# Altium schematic symbol library Schlib1.SchLib: 13 symbols
Pins are listed as number, name and electrical type; pins without a type are passive.

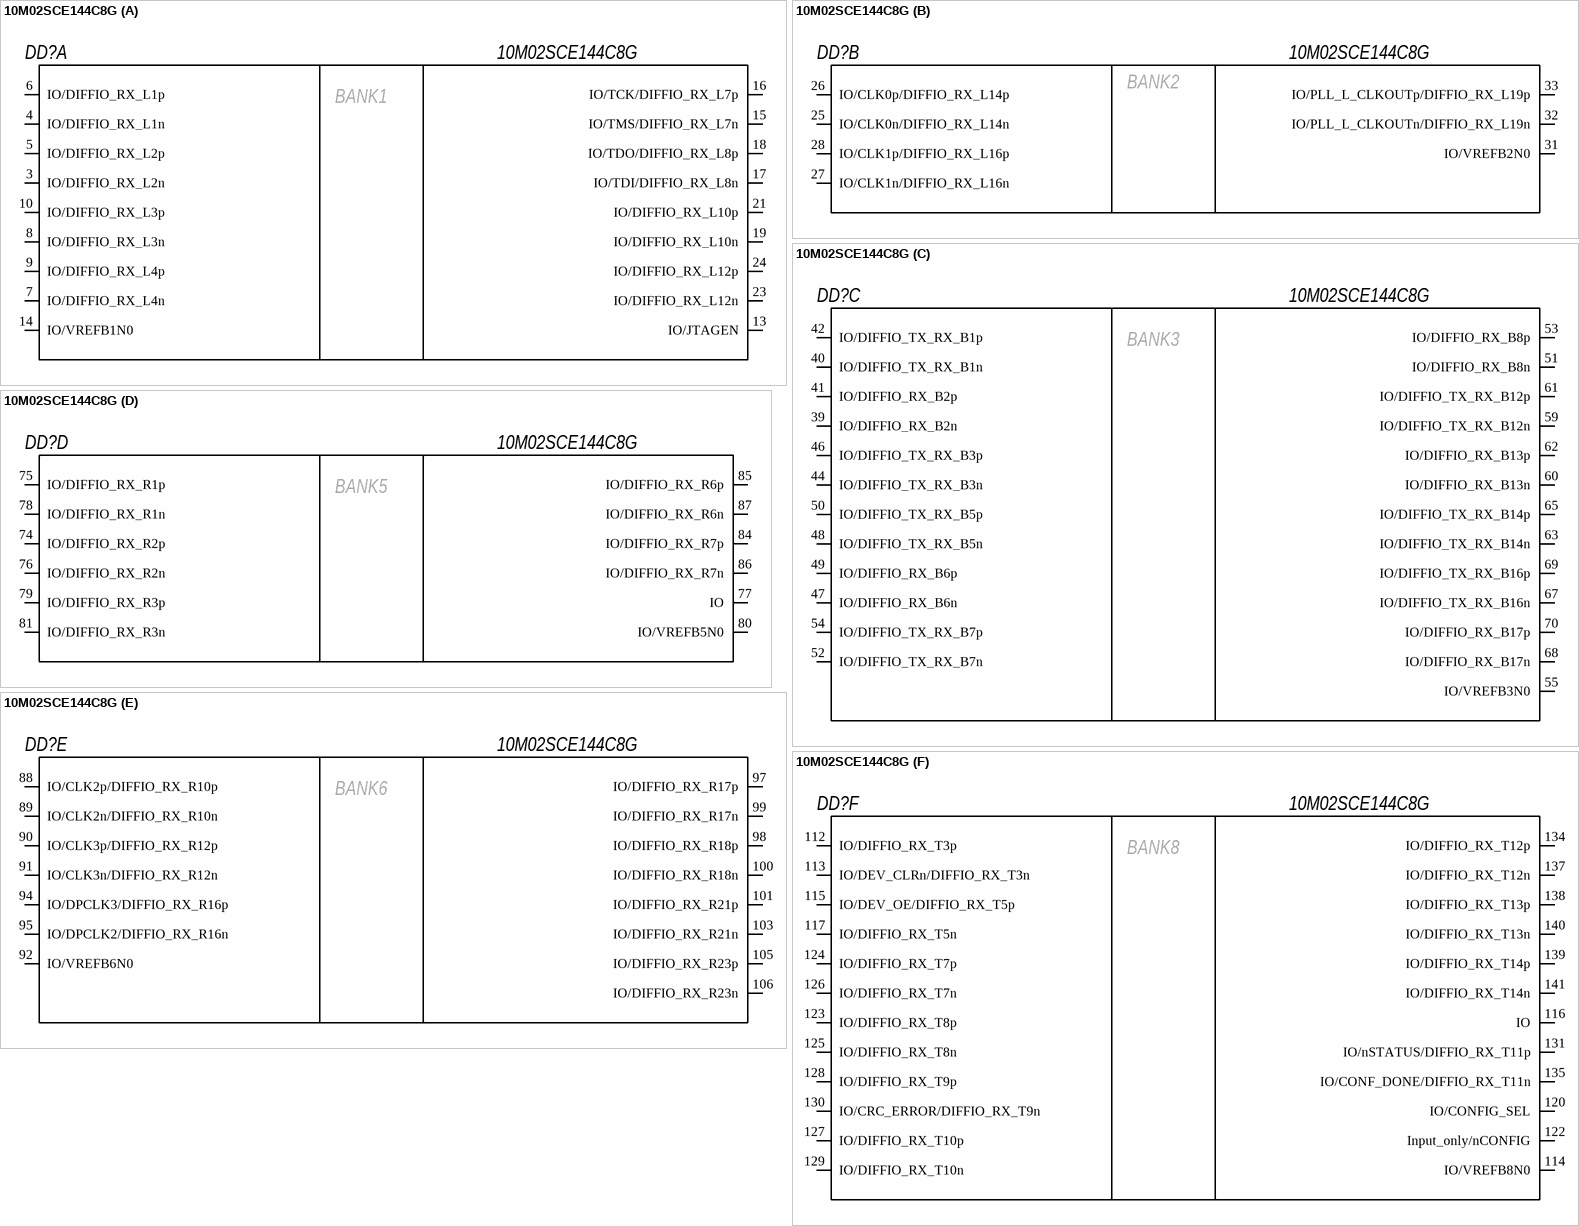
[diagram p0: symbol 10M02SCE144C8G]

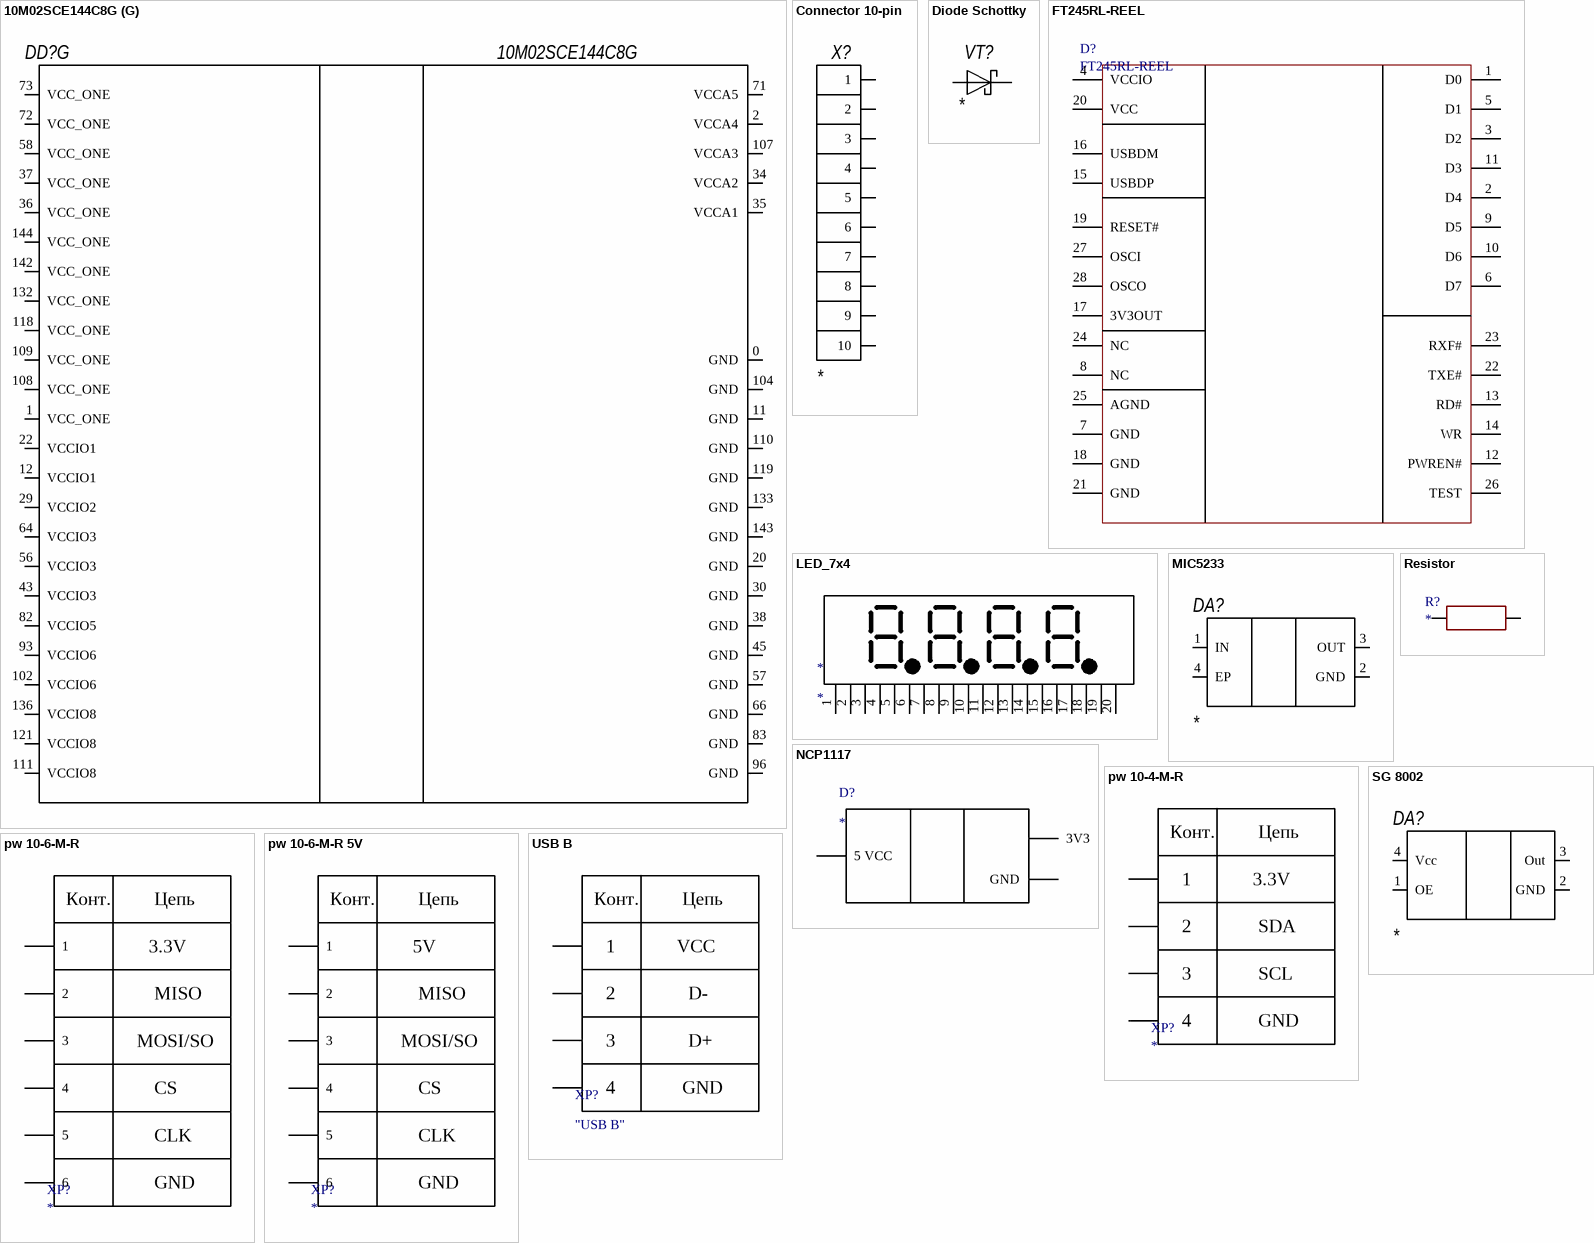
[diagram p1: symbols 10M02SCE144C8G to USB B]

## 10M02SCE144C8G
designator DD?
MAX10 FPGA; Manufacturer: Intel; Value: 10M02SCE144C8G; HelpUrl: https://www.digikey.com/product-detail/en/intel/10M02SCE144C8G/544-3098-ND/5284822; PartNumber: 10M02SCE144C8G
footprint 144-Lead EQFP
part A pins: 3 IO/DIFFIO_RX_L2n (power), 4 IO/DIFFIO_RX_L1n (power), 5 IO/DIFFIO_RX_L2p (power), 6 IO/DIFFIO_RX_L1p (power), 7 IO/DIFFIO_RX_L4n (power), 8 IO/DIFFIO_RX_L3n (power), 9 IO/DIFFIO_RX_L4p (power), 10 IO/DIFFIO_RX_L3p (power), 13 IO/JTAGEN (power), 14 IO/VREFB1N0 (power), 15 IO/TMS/DIFFIO_RX_L7n (power), 16 IO/TCK/DIFFIO_RX_L7p (power), 17 IO/TDI/DIFFIO_RX_L8n (power), 18 IO/TDO/DIFFIO_RX_L8p (power), 19 IO/DIFFIO_RX_L10n (power), 21 IO/DIFFIO_RX_L10p (power), 23 IO/DIFFIO_RX_L12n (power), 24 IO/DIFFIO_RX_L12p (power)
part B pins: 25 IO/CLK0n/DIFFIO_RX_L14n (power), 26 IO/CLK0p/DIFFIO_RX_L14p (power), 27 IO/CLK1n/DIFFIO_RX_L16n (power), 28 IO/CLK1p/DIFFIO_RX_L16p (power), 31 IO/VREFB2N0 (power), 32 IO/PLL_L_CLKOUTn/DIFFIO_RX_L19n (power), 33 IO/PLL_L_CLKOUTp/DIFFIO_RX_L19p (power)
part C pins: 39 IO/DIFFIO_RX_B2n (power), 40 IO/DIFFIO_TX_RX_B1n (power), 41 IO/DIFFIO_RX_B2p (power), 42 IO/DIFFIO_TX_RX_B1p (power), 44 IO/DIFFIO_TX_RX_B3n (power), 46 IO/DIFFIO_TX_RX_B3p (power), 47 IO/DIFFIO_RX_B6n (power), 48 IO/DIFFIO_TX_RX_B5n (power), 49 IO/DIFFIO_RX_B6p (power), 50 IO/DIFFIO_TX_RX_B5p (power), 51 IO/DIFFIO_RX_B8n (power), 52 IO/DIFFIO_TX_RX_B7n (power), 53 IO/DIFFIO_RX_B8p (power), 54 IO/DIFFIO_TX_RX_B7p (power), 55 IO/VREFB3N0 (power), 59 IO/DIFFIO_TX_RX_B12n (power), 60 IO/DIFFIO_RX_B13n (power), 61 IO/DIFFIO_TX_RX_B12p (power), 62 IO/DIFFIO_RX_B13p (power), 63 IO/DIFFIO_TX_RX_B14n (power), 65 IO/DIFFIO_TX_RX_B14p (power), 67 IO/DIFFIO_TX_RX_B16n (power), 68 IO/DIFFIO_RX_B17n (power), 69 IO/DIFFIO_TX_RX_B16p (power), 70 IO/DIFFIO_RX_B17p (power)
part D pins: 74 IO/DIFFIO_RX_R2p (power), 75 IO/DIFFIO_RX_R1p (power), 76 IO/DIFFIO_RX_R2n (power), 77 IO (power), 78 IO/DIFFIO_RX_R1n (power), 79 IO/DIFFIO_RX_R3p (power), 80 IO/VREFB5N0 (power), 81 IO/DIFFIO_RX_R3n (power), 84 IO/DIFFIO_RX_R7p (power), 85 IO/DIFFIO_RX_R6p (power), 86 IO/DIFFIO_RX_R7n (power), 87 IO/DIFFIO_RX_R6n (power)
part E pins: 88 IO/CLK2p/DIFFIO_RX_R10p (power), 89 IO/CLK2n/DIFFIO_RX_R10n (power), 90 IO/CLK3p/DIFFIO_RX_R12p (power), 91 IO/CLK3n/DIFFIO_RX_R12n (power), 92 IO/VREFB6N0 (power), 94 IO/DPCLK3/DIFFIO_RX_R16p (power), 95 IO/DPCLK2/DIFFIO_RX_R16n (power), 97 IO/DIFFIO_RX_R17p (power), 98 IO/DIFFIO_RX_R18p (power), 99 IO/DIFFIO_RX_R17n (power), 100 IO/DIFFIO_RX_R18n (power), 101 IO/DIFFIO_RX_R21p (power), 103 IO/DIFFIO_RX_R21n (power), 105 IO/DIFFIO_RX_R23p (power), 106 IO/DIFFIO_RX_R23n (power)
part F pins: 112 IO/DIFFIO_RX_T3p (power), 113 IO/DEV_CLRn/DIFFIO_RX_T3n (power), 114 IO/VREFB8N0 (power), 115 IO/DEV_OE/DIFFIO_RX_T5p (power), 116 IO (power), 117 IO/DIFFIO_RX_T5n (power), 120 IO/CONFIG_SEL (power), 122 Input_only/nCONFIG (power), 123 IO/DIFFIO_RX_T8p (power), 124 IO/DIFFIO_RX_T7p (power), 125 IO/DIFFIO_RX_T8n (power), 126 IO/DIFFIO_RX_T7n (power), 127 IO/DIFFIO_RX_T10p (power), 128 IO/DIFFIO_RX_T9p (power), 129 IO/DIFFIO_RX_T10n (power), 130 IO/CRC_ERROR/DIFFIO_RX_T9n (power), 131 IO/nSTATUS/DIFFIO_RX_T11p (power), 134 IO/DIFFIO_RX_T12p (power), 135 IO/CONF_DONE/DIFFIO_RX_T11n (power), 137 IO/DIFFIO_RX_T12n (power), 138 IO/DIFFIO_RX_T13p (power), 139 IO/DIFFIO_RX_T14p (power), 140 IO/DIFFIO_RX_T13n (power), 141 IO/DIFFIO_RX_T14n (power)
part G pins: 0 GND (power), 1 VCC_ONE (power), 2 VCCA4 (power), 11 GND (power), 12 VCCIO1 (power), 20 GND (power), 22 VCCIO1 (power), 29 VCCIO2 (power), 30 GND (power), 34 VCCA2 (power), 35 VCCA1 (power), 36 VCC_ONE (power), 37 VCC_ONE (power), 38 GND (power), 43 VCCIO3 (power), 45 GND (power), 56 VCCIO3 (power), 57 GND (power), 58 VCC_ONE (power), 64 VCCIO3 (power), 66 GND (power), 71 VCCA5 (power), 72 VCC_ONE (power), 73 VCC_ONE (power), 82 VCCIO5 (power), 83 GND (power), 93 VCCIO6 (power), 96 GND (power), 102 VCCIO6 (power), 104 GND (power), 107 VCCA3 (power), 108 VCC_ONE (power), 109 VCC_ONE (power), 110 GND (power), 111 VCCIO8 (power), 118 VCC_ONE (power), 119 GND (power), 121 VCCIO8 (power), 132 VCC_ONE (power), 133 GND (power), 136 VCCIO8 (power), 142 VCC_ONE (power), 143 GND (power), 144 VCC_ONE (power)
part A text: BANK1
part B text: BANK2
part C text: BANK3
part D text: BANK5
part E text: BANK6
part F text: BANK8

## Connector 10-pin
designator X?
Connector; Manufacturer: *; Value: *
footprint IDC-10MS
pins: 1 (power), 2 (power), 3 (power), 4 (power), 5 (power), 6 (power), 7 (power), 8 (power), 9 (power), 10 (power)

## Diode Schottky
designator VT?
Value: *; Manufacturer: *; HelpUrl: *
footprint d0805
pins: 1 (power), 2 (power)

## FT245RL-REEL
designator D?
IC USB TO PARALLEL FIFO 28-SSOP; Manufature: FTDI, Future Technology Devices International Ltd; Model: FT245RL-REEL; HelpURL: https://www.digikey.com/product-detail/en/ftdi-future-technology-devices-international-ltd/FT245RL-REEL/768-1011-2-ND/1836389; Case: 28-SSOP
footprint 28-SSOP
pins: 1 D0 (power), 2 D4 (power), 3 D2 (power), 4 VCCIO (power), 5 D1 (power), 6 D7 (power), 7 GND (power), 8 NC (power), 9 D5 (power), 10 D6 (power), 11 D3 (power), 12 PWREN# (power), 13 RD# (power), 14 WR (power), 15 USBDP (power), 16 USBDM (power), 17 3V3OUT (power), 18 GND (power), 19 RESET# (power), 20 VCC (power), 21 GND (power), 22 TXE# (power), 23 RXF# (power), 24 NC (power), 25 AGND (power), 26 TEST (power), 27 OSCI (power), 28 OSCO (power)

## LED_7x4
designator *
footprint 7 segment x4
pins: 1, 2, 3, 4, 5, 6, 7, 8, 9, 10, 11, 12, 13, 14, 15, 16, 17, 18, 19, 20

## MIC5233
designator DA?
Voltage Regulator; PartNumber: MIC5233-3.3YS; Value: *; Case: *
footprint SOT-223
pins: 1 IN (power), 2 GND (power), 3 OUT (power), 4 EP (power)

## NCP1117
designator D?
footprint SOT-223
pins: 1 5 VCC, 2 3V3, 3 GND

## pw 10-4-M-R
designator XP?
footprint PW 10-4 - M - R
pins: 1, 2, 3, 4
text: Конт.; Цепь; 3.3V; SDA; SCL; GND

## pw 10-6-M-R
designator XP?
footprint PW 10-6-M
footprint PW 10-6-M - R
pins: 1, 2, 3, 4, 5, 6
text: Конт.; Цепь; 3.3V; MISO; MOSI/SO; CS; CLK; GND

## pw 10-6-M-R 5V
designator XP?
footprint PW 10-6-M
pins: 1, 2, 3, 4, 5, 6
text: Конт.; Цепь; 5V; MISO; MOSI/SO; CS; CLK; GND

## Resistor
designator R?
Model: *; Manufature: *; HelpURL: *; Case: *; Value: *
footprint R1206
footprint R0805
pins: 1, 2

## SG 8002
designator DA?
Oscillator; Manufacturer: EPSON; HelpUrl: https://support.epson.biz/td/api/doc_check.php?dl=brief_SG-8002CA&lang=en; PartNumber: *; Value: *
footprint 4-SMD, NO LEAD
pins: 1 OE (power), 2 GND (power), 3 Out (power), 4 Vcc (power)

## USB B
designator XP?, comment "USB B"
Type Connector: USB type B; Manufacture: *; Part Number: *; URL: *
footprint USB B
pins: 1, 2, 3, 4
text: Конт.; Цепь; VCC; D-; D+; GND